# EAGLE library part UPD301* (library Microchip)
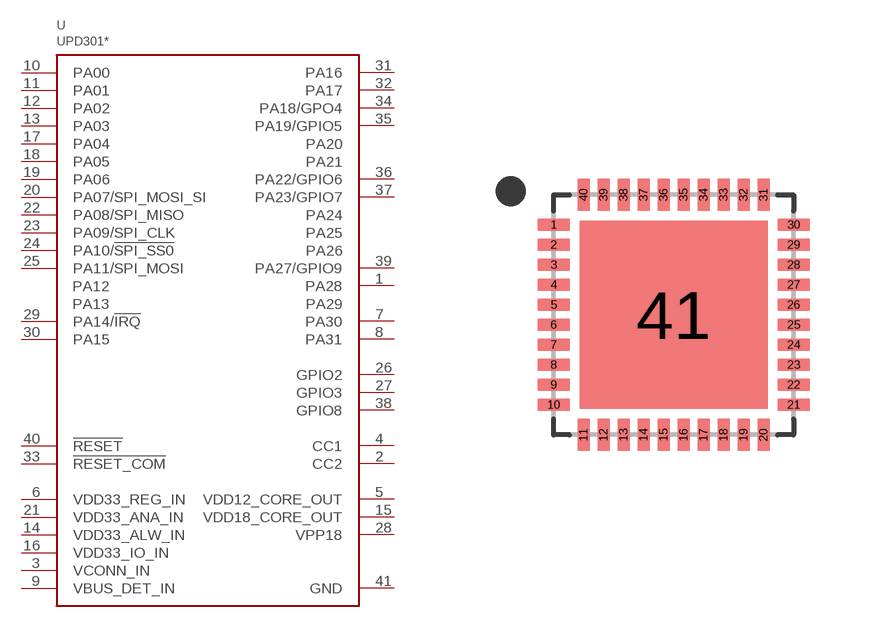
[diagram p56: symbol with the pads of VQFN40; footprint VQFN40]

Designator prefix U

## UPD301B, UPD301C  [VQFN40]
1  PA28
2  CC2
3  VCONN_IN
4  CC1
5  VDD12_CORE_OUT
6  VDD33_REG_IN
7  PA30
8  PA31
9  VBUS_DET_IN
10  PA00
11  PA01
12  PA02
13  PA03
14  VDD33_ALW_IN
15  VDD18_CORE_OUT
16  VDD33_IO_IN
17  PA04
18  PA05
19  PA06
20  PA07/SPI_MOSI_SI
21  VDD33_ANA_IN
22  PA08/SPI_MISO
23  PA09/SPI_CLK
24  PA10/!SPI_SS0!
25  PA11/SPI_MOSI
26  GPIO2
27  GPIO3
28  VPP18
29  PA14/!IRQ!
30  PA15
31  PA16
32  PA17
33  !RESET_COM
34  PA18/GPO4
35  PA19/GPIO5
36  PA22/GPIO6
37  PA23/GPIO7
38  GPIO8
39  PA27/GPIO9
40  !RESET
41  GND

## Footprint VQFN40 (pad centres in mm)
smd 0.8 x 0.3: 1 -3,2.25; 2 -3,1.75; 3 -3,1.25; 4 -3,0.75; 5 -3,0.25; 6 -3,-0.25; 7 -3,-0.75; 8 -3,-1.25; 9 -3,-1.75; 10 -3,-2.25; 21 3,-2.25; 22 3,-1.75; 23 3,-1.25; 24 3,-0.75; 25 3,-0.25; 26 3,0.25; 27 3,0.75; 28 3,1.25; 29 3,1.75; 30 3,2.25
smd 0.3 x 0.8: 11 -2.25,-3; 12 -1.75,-3; 13 -1.25,-3; 14 -0.75,-3; 15 -0.25,-3; 16 0.25,-3; 17 0.75,-3; 18 1.25,-3; 19 1.75,-3; 20 2.25,-3; 31 2.25,3; 32 1.75,3; 33 1.25,3; 34 0.75,3; 35 0.25,3; 36 -0.25,3; 37 -0.75,3; 38 -1.25,3; 39 -1.75,3; 40 -2.25,3
smd 4.7 x 4.7: 41 0,0